# Altium footprint library SOP_102P_N.PcbLib: 1 footprints
Each footprint in its own frame and in the unit in brackets; x right, y up, seen from the top. Pads: shape width x height; smd on the part's side, far side on the other; paste and mask are expansions set on the pad; w line width, h text height; cw(c..) or ccw(c..) is an arc to the next point about the centre after c.
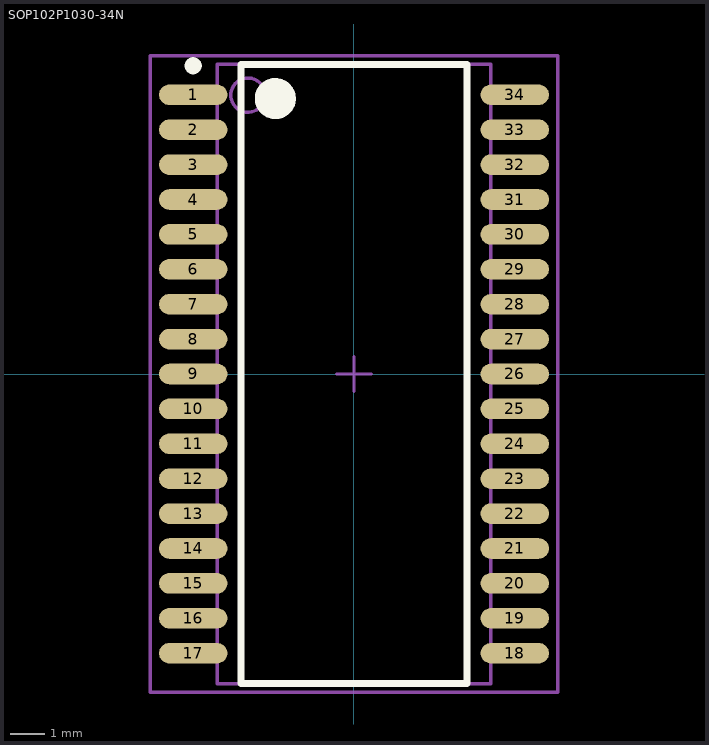
[diagram p0: the footprint, top view; thin cyan lines are the x and y axes]

## SOP102P1030-34N [mm] "34-Pin Small Outline Package 1.02 mm Pitch"
height 2.64
pads (34):
  oval 2x0.6 smd: 1(-4.7,8.16) 2(-4.7,7.14) 3(-4.7,6.12) 4(-4.7,5.1) 5(-4.7,4.08) 6(-4.7,3.06) 7(-4.7,2.04) 8(-4.7,1.02) 9(-4.7,0) 10(-4.7,-1.02) 11(-4.7,-2.04) 12(-4.7,-3.06) 13(-4.7,-4.08) 14(-4.7,-5.1) 15(-4.7,-6.12) 16(-4.7,-7.14) 17(-4.7,-8.16) 18(4.7,-8.16) 19(4.7,-7.14) 20(4.7,-6.12) 21(4.7,-5.1) 22(4.7,-4.08) 23(4.7,-3.06) 24(4.7,-2.04) 25(4.7,-1.02) 26(4.7,0) 27(4.7,1.02) 28(4.7,2.04) 29(4.7,3.06) 30(4.7,4.08) 31(4.7,5.1) 32(4.7,6.12) 33(4.7,7.14) 34(4.7,8.16)
Top Overlay:
  circle w0.25: c-4.7,9.01 r0.125
  circle w0.6: c-2.3,8.05 r0.3
  lines w0.2: -3.3,-9.05 -3.3,9.05 3.3,9.05 3.3,-9.05 -3.3,-9.05
Mechanical 13:
  circle w0.1: c-3.1,8.15 r0.5
  lines w0.1: -4,-9.05 -4,9.05 4,9.05 4,-9.05 -4,-9.05
Mechanical 15:
  lines w0.1: -0.5,0 0.5,0 ; 0,-0.5 0,0.5 ; -5.95,-9.3 -5.95,9.3 5.95,9.3 5.95,-9.3 -5.95,-9.3
3D body: height 2.64, standoff 0, extent -4,-9.05 4,9.05